# Altium footprint library MODULE_DC2DC.PcbLib: 48 footprints (part 3 of 3)
Each footprint in its own frame and in the unit in brackets; x right, y up, seen from the top. Pads: shape width x height; smd on the part's side, far side on the other; paste and mask are expansions set on the pad; w line width, h text height; cw(c..) or ccw(c..) is an arc to the next point about the centre after c.
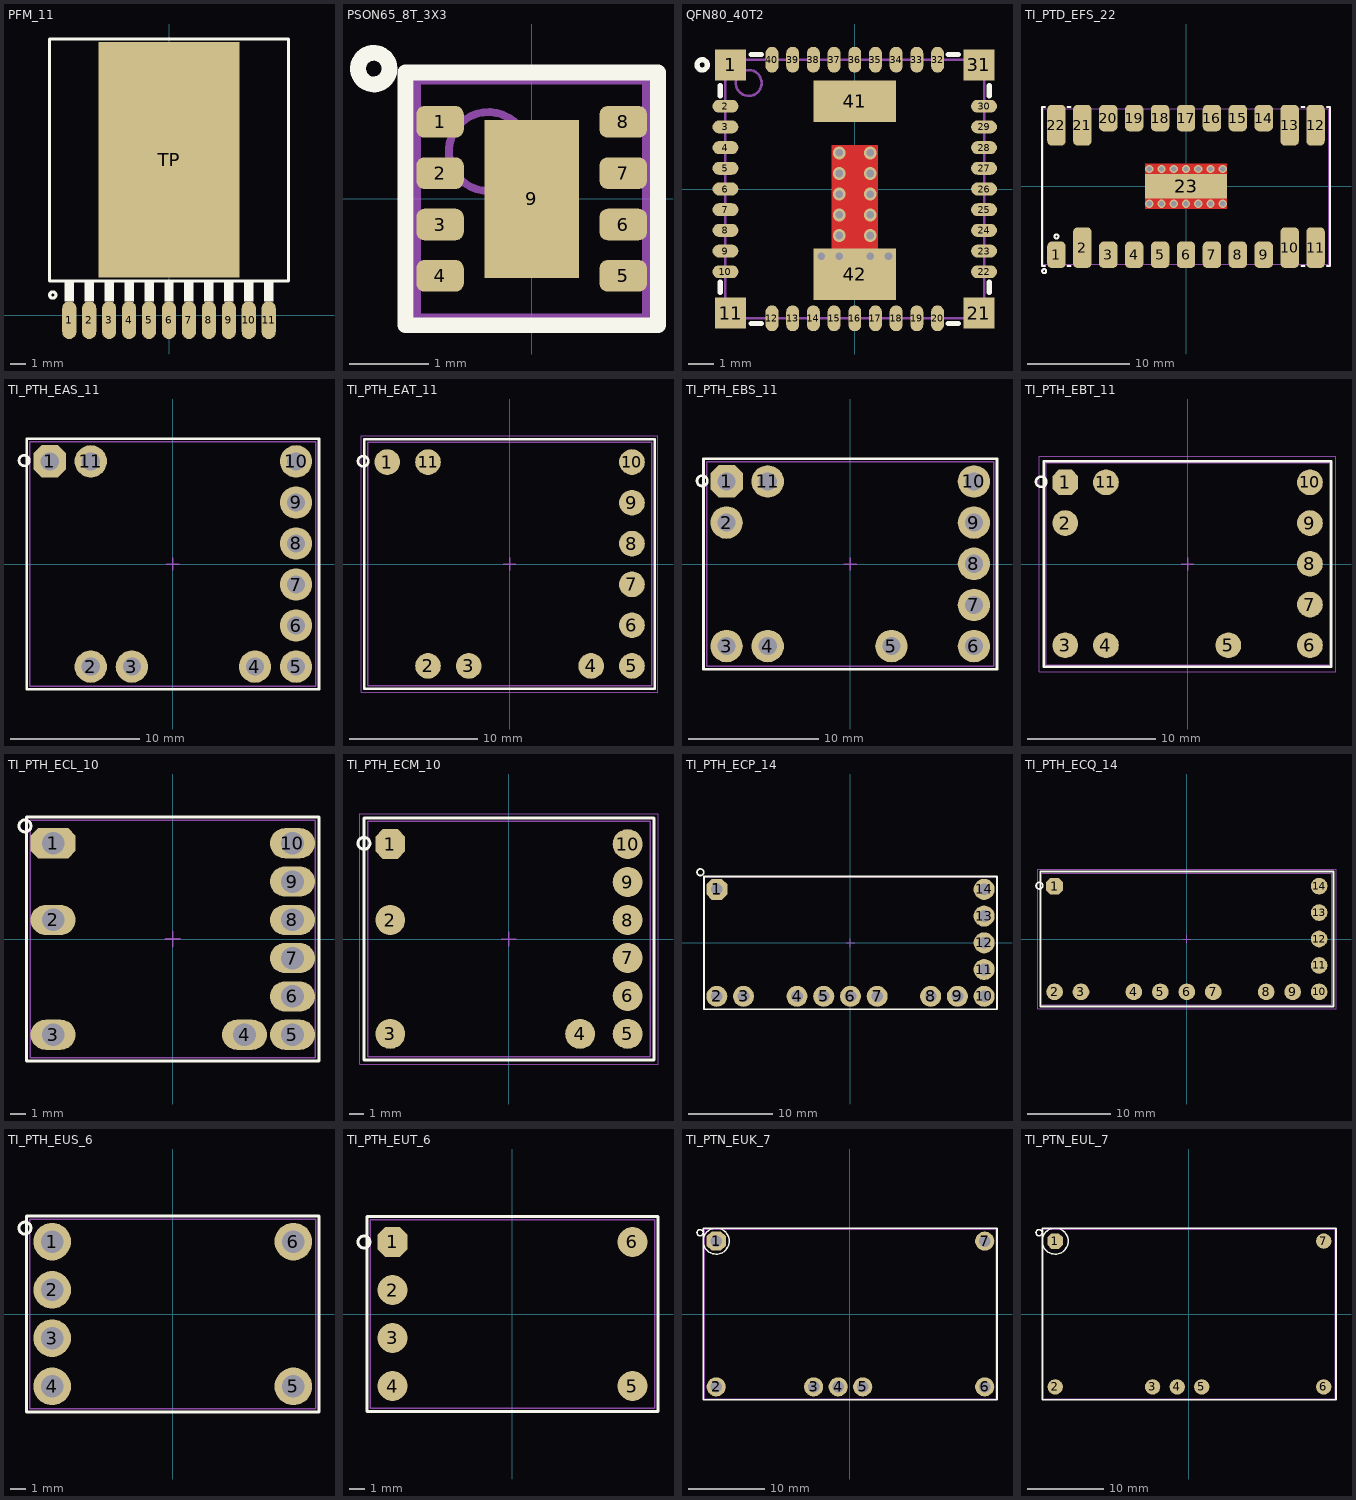
[diagram p2: the footprints below, top view; thin cyan lines are the x and y axes]

## PFM_11 [mm] "PFM11 (TI), TZA11A, pitch: 127mm, 11p, 15X15mm"
height 4.6
pads (12):
  oval 0.9x2.4 smd mask+0.1: 1(-6.35,-0.3) 2(-5.08,-0.3) 3(-3.81,-0.3) 4(-2.54,-0.3) 5(-1.27,-0.3) 6(0,-0.3) 7(1.27,-0.3) 8(2.54,-0.3) 9(3.81,-0.3) 10(5.08,-0.3) 11(6.35,-0.3)
  rect 9x15 smd: TP(0,9.9)
Top Overlay:
  circle w0.2: c-7.4,1.3 r0.2
  rectangle: 6.05,0.9 6.65,2.2
  rectangle: 4.78,0.9 5.38,2.2
  rectangle: 3.51,0.9 4.11,2.2
  rectangle: 2.24,0.9 2.84,2.2
  rectangle: 0.97,0.9 1.57,2.2
  rectangle: -6.65,0.9 -6.05,2.2
  rectangle: -5.38,0.9 -4.78,2.2
  rectangle: -4.11,0.9 -3.51,2.2
  rectangle: -2.84,0.9 -2.24,2.2
  rectangle: -1.57,0.9 -0.97,2.2
  rectangle: -0.3,0.9 0.3,2.2
  lines w0.2: -7.6,2.2 7.6,2.2 7.6,17.6 -7.6,17.6 -7.6,2.2
3D body "NATIONALSEMI-TZA11A.STEP": height 6, standoff 0, extent -7.625,-0.915 7.625,17.615

## PSON65_8T_3X3 [mm] "SIL-8, MicroSiP, PSON, 8-Leads, Body 3.00x2.90mm, Pitch 0.65mm"
height 0.4
pads (9):
  rrect50% 0.6x0.4 smd mask+0.075: 1(-1.16,0.975) 2(-1.16,0.325) 3(-1.16,-0.325) 4(-1.16,-0.975) 5(1.16,-0.975) 6(1.16,-0.325) 7(1.16,0.325) 8(1.16,0.975)
  rect 1.2x2 smd mask+0.05: 9(0,0)
Top Overlay:
  circle w0.2: c-2,1.65 r0.2
  lines w0.2: -1.6,-1.6 -1.6,1.6 1.6,1.6 1.6,-1.6 -1.6,-1.6
Mechanical 13:
  circle w0.1: c-0.55,0.6 r0.5
  lines w0.1: -1.45,-1.5 1.45,-1.5 1.45,1.5 -1.45,1.5 -1.45,-1.5
3D body "PSON65_8T_3X3.step": height 0.4, standoff 0, extent -1.451,-1.5 1.451,1.5
3D body: height 1.3, standoff 0.5, extent -0.8,-0.8 0.8,0.8
3D body: height 1.3, standoff 0.5, extent -0.8,-1.2 0.8,-0.8
3D body: height 1.3, standoff 0.5, extent -0.8,0.8 0.8,1.2

## QFN80_40T2 [mm] "QFN, 40-Leads, Body 10x10mm, Pitch 0.80mm RVQ (TI)"
height 4.4
pads (42):
  rect 1.2x1.2 smd mask+0.1: 1(-4.8,4.8) 11(-4.8,-4.8) 21(4.8,-4.8) 31(4.8,4.8)
  oval 1x0.5 smd mask+0.1: 2(-5,3.2) 3(-5,2.4) 4(-5,1.6) 5(-5,0.8) 6(-5,0) 7(-5,-0.8) 8(-5,-1.6) 9(-5,-2.4) 10(-5,-3.2) 22(5,-3.2) 23(5,-2.4) 24(5,-1.6) 25(5,-0.8) 26(5,0) 27(5,0.8) 28(5,1.6) 29(5,2.4) 30(5,3.2)
  oval 0.5x1 smd mask+0.1: 12(-3.2,-5) 13(-2.4,-5) 14(-1.6,-5) 15(-0.8,-5) 16(0,-5) 17(0.8,-5) 18(1.6,-5) 19(2.4,-5) 20(3.2,-5) 32(3.2,5) 33(2.4,5) 34(1.6,5) 35(0.8,5) 36(0,5) 37(-0.8,5) 38(-1.6,5) 39(-2.4,5) 40(-3.2,5)
  rect 3.2x1.6 smd mask+0.1: 41(0,3.4)
  rect 3.2x2 smd mask+0.1: 42(0,-3.3)
via 0.6,1.4 diameter 0.5 hole 0.3
via 0.6,0.6 diameter 0.5 hole 0.3
via 0.6,-0.2 diameter 0.5 hole 0.3
via 0.6,-1 diameter 0.5 hole 0.3
via 0.6,-1.8 diameter 0.5 hole 0.3
via 0.6,-2.6 diameter 0.5 hole 0.3
via 1.3,-2.6 diameter 0.5 hole 0.3
via -1.3,-2.6 diameter 0.5 hole 0.3
via -0.6,-2.6 diameter 0.5 hole 0.3
via -0.6,-1.8 diameter 0.5 hole 0.3
via -0.6,-1 diameter 0.5 hole 0.3
via -0.6,-0.2 diameter 0.5 hole 0.3
via -0.6,0.6 diameter 0.5 hole 0.3
via -0.6,1.4 diameter 0.5 hole 0.3
Top Layer:
  rectangle: -0.9,-2.4 0.9,1.7
Top Overlay:
  circle w0.2: c-5.9,4.8 r0.2
  lines w0.2: -5.2,-4 -5.2,-3.6 ; -5.2,3.6 -5.2,4 ; -4,-5.2 -3.6,-5.2 ; -4,5.2 -3.6,5.2 ; 3.6,-5.2 4,-5.2 ; 3.6,5.2 4,5.2 ; 5.2,-4 5.2,-3.6 ; 5.2,3.6 5.2,4
Top Paste:
  rectangle: -0.7,-1.9 0.7,1.6
Top Solder:
  rectangle: -0.9,-2.9 0.9,1.8
  rectangle: -1.7,-4.3 1.7,-2.9
Mechanical 13:
  circle w0.1: c-4.1,4.1 r0.5
  lines w0.1: -5,-5 5,-5 5,5 -5,5 -5,-5
3D body: height 4.4, standoff 0.08, extent -5,-5 5,5

## TI_PTD_EFS_22 [mm] "TexasInstruments POWERMODULE, EFS, PTD08D210W, 15.24X27.94mm"
pads (23):
  rrect50% 1.8x2.6 smd: 1(-12.7,-6.7) 3(-7.62,-6.7) 4(-5.08,-6.7) 5(-2.54,-6.7) 6(0,-6.7) 7(2.54,-6.7) 8(5.08,-6.7) 9(7.62,-6.7) 14(7.62,6.7) 15(5.08,6.7) 16(2.54,6.7) 17(0,6.7) 18(-2.54,6.7) 19(-5.08,6.7) 20(-7.62,6.7)
  rrect50% 1.8x4 smd: 2(-10.16,-6) 10(10.16,-6) 11(12.7,-6) 12(12.7,6) 13(10.16,6) 21(-10.16,6) 22(-12.7,6)
  rect 8x2.4 smd: 23(0,0)
via -3.6,-1.7 diameter 0.8 hole 0.5
via -2.4,-1.7 diameter 0.8 hole 0.5
via -1.2,-1.7 diameter 0.8 hole 0.5
via 1.2,-1.7 diameter 0.8 hole 0.5
via 0,-1.7 diameter 0.8 hole 0.5
via 3.6,-1.7 diameter 0.8 hole 0.5
via 2.4,-1.7 diameter 0.8 hole 0.5
via 2.4,1.7 diameter 0.8 hole 0.5
via 3.6,1.7 diameter 0.8 hole 0.5
via 0,1.7 diameter 0.8 hole 0.5
via 1.2,1.7 diameter 0.8 hole 0.5
via -1.2,1.7 diameter 0.8 hole 0.5
via -2.4,1.7 diameter 0.8 hole 0.5
via -3.6,1.7 diameter 0.8 hole 0.5
Top Layer:
  region: -4,2.2 4,2.2 4,-2.2 -4,-2.2
Top Overlay:
  circle w0.2: c-12.7,-4.9 r0.2
  circle w0.2: c-13.9,-8.3 r0.2
  lines w0.2: -13.8,-7.8 -14.1,-7.8 -14.1,7.8 -13.8,7.8 ; -11.6,-7.8 -11.3,-7.8 ; -11.6,7.8 -11.3,7.8 ; 11.3,-7.8 11.6,-7.8 ; 11.3,7.8 11.6,7.8 ; 13.8,-7.8 14.1,-7.8 14.1,7.8 13.8,7.8
Mechanical 13:
  lines w0.1: -13.97,-7.62 -13.97,7.62 13.97,7.62 13.97,-7.62 -13.97,-7.62
3D body: height 6, standoff 0, extent -13.97,-7.62 13.97,7.62

## TI_PTH_EAS_11 [mm] "TexasInstruments POWERMODULE, EAS Package 23.11x19.94mm"
height 8.5
pads (11):
  oct 2.5x2.5 / inner oct 1.7x1.7 / far side oct 2.5x2.5 hole 1.4: 1(-9.525,7.938)
  round 2.5 / inner round 1.7 / far side round 2.5 hole 1.4: 2(-6.35,-7.938) 3(-3.175,-7.938) 4(6.35,-7.938) 5(9.525,-7.938) 6(9.525,-4.763) 7(9.525,-1.587) 8(9.525,1.587) 9(9.525,4.763) 10(9.525,7.938) 11(-6.35,7.938)
Top Overlay:
  circle w0.2: c-11.5,8 r0.4
  lines w0.2: -11.3,-9.7 -11.3,9.7 11.3,9.7 11.3,-9.7 -11.3,-9.7
Mechanical 13:
  lines w0.1: -0.5,0 0.5,0 ; 0,-0.5 0,0.5 ; -11.05,-9.465 11.05,-9.465 11.05,9.465 -11.05,9.465 -11.05,-9.465
3D body: height 8.5, standoff 0.25, extent -11.05,-9.465 11.05,9.465

## TI_PTH_EAT_11 [mm] "Module, 11-Leads, Body 22.1x18.93 mm"
height 8.5
pads (11):
  round 2 smd: 1(-9.525,7.938) 2(-6.35,-7.938) 3(-3.175,-7.938) 4(6.35,-7.938) 5(9.525,-7.938) 6(9.525,-4.763) 7(9.525,-1.587) 8(9.525,1.587) 9(9.525,4.763) 10(9.525,7.938) 11(-6.35,7.938)
Top Overlay:
  circle w0.2: c-11.4,8 r0.4
  lines w0.2: -11.3,-9.7 11.3,-9.7 11.3,9.7 -11.3,9.7 -11.3,-9.7
Mechanical 13:
  lines w0.1: -11.05,-9.465 11.05,-9.465 11.05,9.465 -11.05,9.465 -11.05,-9.465
Mechanical 15:
  lines w0.05: -11.555,-9.97 -11.555,9.97 11.555,9.97 11.555,-9.97 -11.555,-9.97
  lines w0.1: -0.5,0 0.5,0 ; 0,-0.5 0,0.5
3D body: height 8.5, standoff 0.25, extent -11.05,-9.465 11.05,9.465

## TI_PTH_EBS_11 [mm] "Module, 11-Leads, Body 22.1x15.75mm"
height 8.5
pads (11):
  oct 2.5x2.5 / inner oct 1.7x1.7 / far side oct 2.5x2.5 hole 1.4: 1(-9.525,6.355)
  round 2.5 / inner round 1.7 / far side round 2.5 hole 1.4: 2(-9.525,3.185) 3(-9.525,-6.325) 4(-6.355,-6.325) 5(3.175,-6.325) 6(9.525,-6.325) 7(9.525,-3.155) 8(9.525,0.015) 9(9.525,3.185) 10(9.525,6.355) 11(-6.355,6.355)
Top Overlay:
  circle w0.2: c-11.4,6.4 r0.4
  lines w0.2: -11.3,-8.1 -11.3,8.1 11.3,8.1 11.3,-8.1 -11.3,-8.1
Mechanical 13:
  lines w0.1: -0.5,0 0.5,0 ; 0,-0.5 0,0.5 ; -11.05,-7.875 -11.05,7.875 11.05,7.875 11.05,-7.875 -11.05,-7.875
3D body: height 8.5, standoff 0.25, extent -11.05,-7.875 11.05,7.875

## TI_PTH_EBT_11 [mm] "Module, 11-Leads, Body 22.1x15.75mm"
height 8.5
pads (11):
  oct 2x2 smd: 1(-9.525,6.355)
  round 2 smd: 2(-9.525,3.185) 3(-9.525,-6.325) 4(-6.355,-6.325) 5(3.175,-6.325) 6(9.525,-6.325) 7(9.525,-3.155) 8(9.525,0.015) 9(9.525,3.185) 10(9.525,6.355) 11(-6.355,6.355)
Top Overlay:
  circle w0.2: c-11.4,6.4 r0.4
  lines w0.2: -11.2,-8 11.2,-8 11.2,8 -11.2,8 -11.2,-8
Mechanical 13:
  lines w0.1: -11.05,-7.875 11.05,-7.875 11.05,7.875 -11.05,7.875 -11.05,-7.875
Mechanical 15:
  lines w0.05: -11.555,-8.38 -11.555,8.38 11.555,8.38 11.555,-8.38 -11.555,-8.38
  lines w0.1: -0.5,0 0.5,0 ; 0,-0.5 0,0.5
3D body: height 8.5, standoff 0.25, extent -11.05,-7.875 11.05,7.875

## TI_PTH_ECL_10 [mm] "Module, 10-Leads, Body 18.92x15.75 mm"
height 8.5
pads (10):
  oct 3x2 / inner oct 1.8x1.8 / far side oct 3x2 hole 1.5: 1(-7.94,6.35)
  oval 3x2 / inner round 1.8 / far side oval 3x2 hole 1.5: 2(-7.94,1.27) 3(-7.94,-6.35) 4(4.76,-6.35) 5(7.94,-6.35) 6(7.94,-3.81) 7(7.94,-1.27) 8(7.94,1.27) 9(7.94,3.81) 10(7.94,6.35)
Top Overlay:
  circle w0.2: c-9.8,7.5 r0.4
  lines w0.2: -9.7,-8.1 9.7,-8.1 9.7,8.1 -9.7,8.1 -9.7,-8.1
Mechanical 13:
  lines w0.1: -0.5,0 0.5,0 ; 0,-0.5 0,0.5 ; -9.46,-7.875 -9.46,7.875 9.46,7.875 9.46,-7.875 -9.46,-7.875
3D body: height 8.5, standoff 0.25, extent -9.46,-7.875 9.46,7.875

## TI_PTH_ECM_10 [mm] "Module, 10-Leads, Body 18.92x15.75 mm"
height 8.5
pads (10):
  oct 2x2 smd: 1(-7.94,6.35)
  round 2 smd: 2(-7.94,1.27) 3(-7.94,-6.35) 4(4.76,-6.35) 5(7.94,-6.35) 6(7.94,-3.81) 7(7.94,-1.27) 8(7.94,1.27) 9(7.94,3.81) 10(7.94,6.35)
Top Overlay:
  circle w0.2: c-9.7,6.4 r0.4
  lines w0.2: -9.7,-8.1 -9.7,8.1 9.7,8.1 9.7,-8.1 -9.7,-8.1
Mechanical 13:
  lines w0.1: -9.46,-7.875 9.46,-7.875 9.46,7.875 -9.46,7.875 -9.46,-7.875
Mechanical 15:
  lines w0.05: -9.97,-8.38 -9.97,8.38 9.97,8.38 9.97,-8.38 -9.97,-8.38
  lines w0.1: -0.5,0 0.5,0 ; 0,-0.5 0,0.5
3D body: height 8.5, standoff 0.25, extent -9.46,-7.875 9.46,7.875

## TI_PTH_ECP_14 [mm] "14-Leads Double Sided Module, Body 34.8x15.75mm"
height 8.5
pads (14):
  oct 2.5x2.5 / inner oct 1.7x1.7 / far side oct 2.5x2.5 hole 1.4: 1(-15.875,6.35)
  round 2.5 / inner round 1.7 / far side round 2.5 hole 1.4: 2(-15.875,-6.35) 3(-12.7,-6.35) 4(-6.35,-6.35) 5(-3.175,-6.35) 6(0,-6.35) 7(3.175,-6.35) 8(9.525,-6.35) 9(12.7,-6.35) 10(15.875,-6.35) 11(15.875,-3.175) 12(15.875,0) 13(15.875,3.175) 14(15.875,6.35)
Top Overlay:
  circle w0.2: c-17.826,8.382 r0.4
  lines w0.2: -17.4,-7.875 17.4,-7.875 17.4,7.875 -17.4,7.875 -17.4,-7.875
Mechanical 13:
  lines w0.1: -0.5,0 0.5,0 ; 0,-0.5 0,0.5 ; -17.4,-7.875 -17.4,7.875 17.4,7.875 17.4,-7.875 -17.4,-7.875
3D body: height 8.5, standoff 0.25, extent -17.4,-7.875 17.4,7.875

## TI_PTH_ECQ_14 [mm] "14-Leads Double Sided Module, Body 34.8x15.75mm"
height 8.5
pads (14):
  oct 2x2 smd: 1(-15.875,6.35)
  round 2 smd: 2(-15.875,-6.35) 3(-12.7,-6.35) 4(-6.35,-6.35) 5(-3.175,-6.35) 6(0,-6.35) 7(3.175,-6.35) 8(9.525,-6.35) 9(12.7,-6.35) 10(15.875,-6.35) 11(15.875,-3.175) 12(15.875,0) 13(15.875,3.175) 14(15.875,6.35)
Top Overlay:
  circle w0.2: c-17.7,6.4 r0.4
  lines w0.2: -17.6,-8.1 17.6,-8.1 17.6,8.1 -17.6,8.1 -17.6,-8.1
Mechanical 13:
  lines w0.1: -17.4,-7.875 -17.4,7.875 17.4,7.875 17.4,-7.875 -17.4,-7.875
Mechanical 15:
  lines w0.05: -17.905,-8.38 17.905,-8.38 17.905,8.38 -17.905,8.38 -17.905,-8.38
  lines w0.1: -0.5,0 0.5,0 ; 0,-0.5 0,0.5
3D body: height 8.5, standoff 0.25, extent -17.4,-7.875 17.4,7.875

## TI_PTH_EUS_6 [mm] "TexasInstruments POWERMODULE, EUS Package 18.9x12.6mm"
height 8.5
pads (6):
  round 2.5 hole 1.5: 1(-8,4.8) 2(-8,1.6) 3(-8,-1.6) 4(-8,-4.8) 5(8,-4.8) 6(8,4.8)
Top Overlay:
  circle w0.2: c-9.8,5.7 r0.4
  lines w0.2: -9.7,-6.5 -9.7,6.5 9.7,6.5 9.7,-6.5 -9.7,-6.5
Mechanical 13:
  lines w0.1: -9.5,-6.3 9.5,-6.3 9.5,6.3 -9.5,6.3 -9.5,-6.3
3D body: height 8.5, standoff 0, extent -9.5,-6.3 9.5,6.3

## TI_PTH_EUT_6 [mm] "TexasInstruments POWERMODULE, EUT Package 18.9x12.6mm"
height 8.5
pads (6):
  oct 2x2 smd: 1(-8,4.8)
  round 2 smd: 2(-8,1.6) 3(-8,-1.6) 4(-8,-4.8) 5(8,-4.8) 6(8,4.8)
Top Overlay:
  circle w0.2: c-9.9,4.8 r0.4
  lines w0.2: -9.7,-6.5 9.7,-6.5 9.7,6.5 -9.7,6.5 -9.7,-6.5
Mechanical 13:
  lines w0.1: -9.5,-6.3 -9.5,6.3 9.5,6.3 9.5,-6.3 -9.5,-6.3
3D body: height 8.5, standoff 0, extent -9.5,-6.3 9.5,6.3

## TI_PTN_EUK_7 [mm] "TexasInstruments POWERMODULE, EUK, 38X22.1mm"
pads (7):
  oct 2.5x2.5 hole 1.5: 1(-17.4,9.5)
  round 2.5 hole 1.5: 2(-17.4,-9.5) 3(-4.7,-9.5) 4(-1.5,-9.5) 5(1.7,-9.5) 6(17.6,-9.5) 7(17.6,9.5)
Top Overlay:
  circle w0.2: c-17.4,9.5 r1.7
  circle w0.2: c-19.5,10.6 r0.4
  lines w0.2: -19.1,-11.2 19.2,-11.2 19.2,11.2 -19.1,11.2 -19.1,-11.2
Mechanical 13:
  lines w0.1: -18.9,-11.05 -18.9,11.05 19.1,11.05 19.1,-11.05 -18.9,-11.05
3D body: height 9.6, standoff 0, extent -18.9,-11.05 19.1,11.05

## TI_PTN_EUL_7 [mm] "TexasInstruments POWERMODULE, EUL, 38X22.1mm"
pads (7):
  oct 2x2 smd: 1(-17.4,9.5)
  round 2 smd: 2(-17.4,-9.5) 3(-4.7,-9.5) 4(-1.5,-9.5) 5(1.7,-9.5) 6(17.6,-9.5) 7(17.6,9.5)
Top Overlay:
  circle w0.2: c-19.5,10.6 r0.4
  circle w0.2: c-17.4,9.5 r1.7
  lines w0.2: -19.1,-11.2 -19.1,11.2 19.2,11.2 19.2,-11.2 -19.1,-11.2
Mechanical 13:
  lines w0.1: -18.9,-11.05 -18.9,11.05 19.1,11.05 19.1,-11.05 -18.9,-11.05
3D body: height 9.6, standoff 0, extent -18.9,-11.05 19.1,11.05